# EAGLE library part UPDI_6POL (library UPDI_interface)
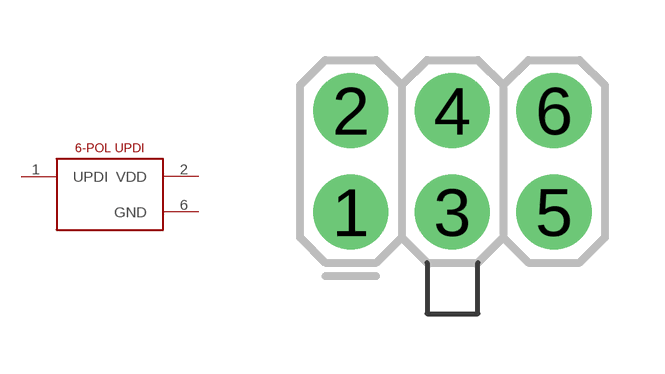
[diagram p1: symbol with the pads of 2X3-NS; footprint 2X3-NS]

Designator prefix -

## UPDI_6POL  [2X3-NS]
1  UPDI
2  VDD  pwr
3  NC0  nc
4  NC2  nc
5  NC1  nc
6  GND  pwr

## Footprint 2X3-NS (pad centres in mm)
Plated Through Hole - 2x3 No Silk Outline Specifications: Pin count:6 Pin pitch:0.1" Example device(s): CONN_03x2
drill 1.016 pad 1.88: 1 -2.54,-1.27; 2 -2.54,1.27; 3 0,-1.27; 4 0,1.27; 5 2.54,-1.27; 6 2.54,1.27